# Altium integrated library TCC0805X7R106K160FT.IntLib: 1 symbol
Pins are listed as number, name and electrical type; pins without a type are passive.

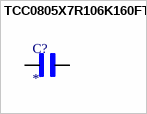
[diagram p0: symbol TCC0805X7R106K160FT]

## TCC0805X7R106K160FT
designator C?
MF: CCTC; MP: TCC0805X7R106K160FT; SnapEDA_Link: https://www.snapeda.com/parts/TCC0805X7R106K160FT/CCTC/view-part/?ref=snap; Package: 0805-2 CCTC; Value: *; Check_prices: https://www.snapeda.com/parts/TCC0805X7R106K160FT/CCTC/view-part/?ref=eda
footprint CAPC2012X145N
pins: 1, 2